# Altium schematic symbol library 0.9 - 传感器-存储器-模块.SchLib: 64 symbols
Pins are listed as number, name and electrical type; pins without a type are passive.

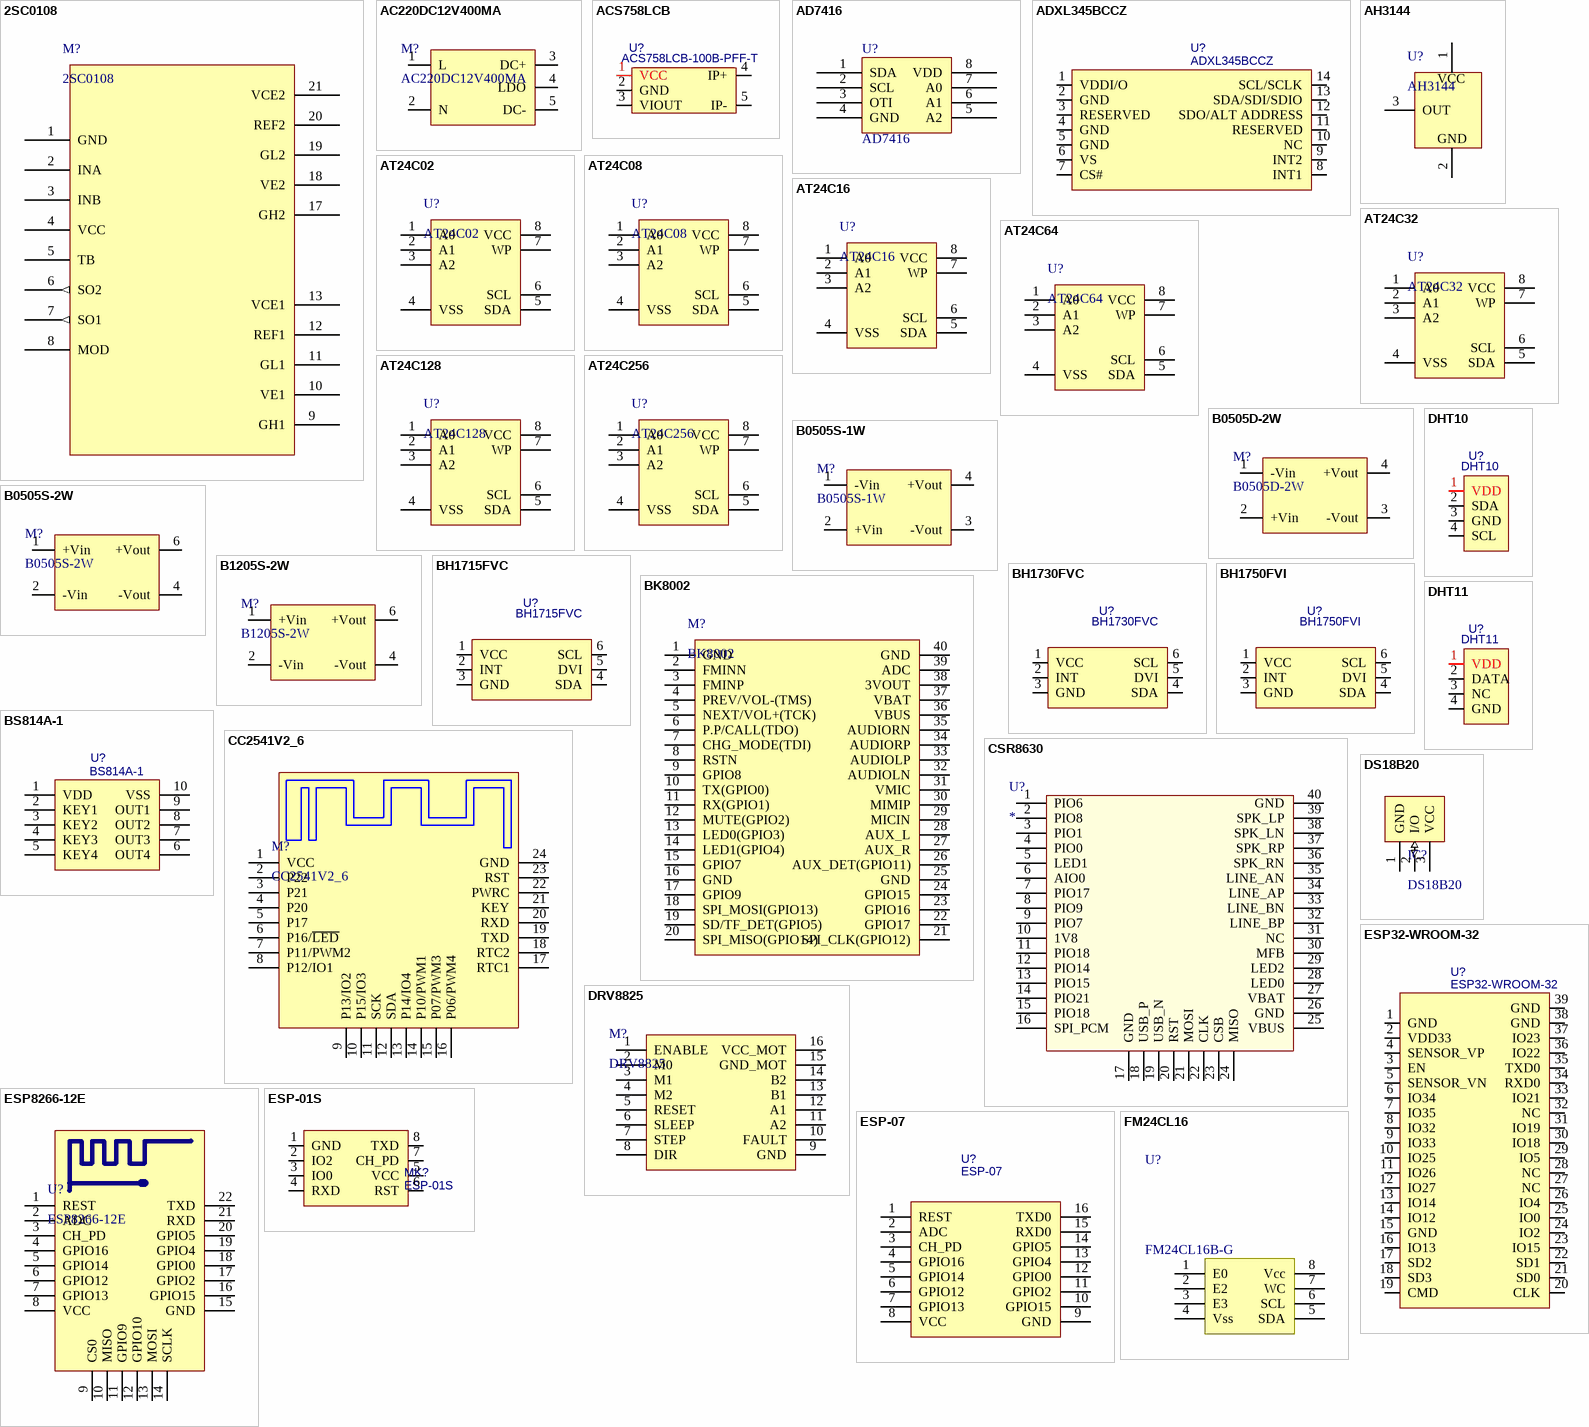
[diagram p0: symbols 2SC0108 to FM24CL16]

## 2SC0108
designator M?
IGBT驱动模块; 封装库来自淘宝卖家：黄晶宝石: 其他店铺购入均为盗版封装库，请立即申请退款，本店现金奖励100~500元; BOM名称: IGBT驱动模块
footprint 2SC0108 (45mm*34.29mm*16mm(长*宽*高))
pins: 1 GND, 2 INA, 3 INB, 4 VCC, 5 TB, 6 SO2 (out), 7 SO1 (out), 8 MOD, 9 GH1, 10 VE1, 11 GL1, 12 REF1, 13 VCE1, 17 GH2, 18 VE2, 19 GL2, 20 REF2, 21 VCE2

## AC220DC12V400MA
designator M?
AC-DC模块; 封装库来自淘宝卖家：黄晶宝石: 其他店铺购入均为盗版封装库，请立即申请退款，本店现金奖励100~500元; BOM名称: AC-DC模块
footprint ADDC302018 (长宽高30*20*18（mm）)
pins: 1 L, 2 N, 3 DC+, 4 LDO, 5 DC-

## ACS758LCB
designator U?, comment ACS758LCB-100B-PFF-T
霍尔电流传感器; 封装库来自淘宝卖家：黄晶宝石: 其他店铺购入均为盗版封装库，请立即申请退款，本店现金奖励100~500元; BOM名称: ACS758LCB
footprint ACS758
pins: 1 VCC, 2 GND, 3 VIOUT, 4 IP+, 5 IP-

## AD7416
designator U?
数字温度传感器; 封装库来自淘宝卖家：黄晶宝石: 其他店铺购入均为盗版封装库，请立即申请退款，本店现金奖励100~500元
footprint SOIC-8_150mil (封装库来自淘宝卖家 ID：黄晶宝石)
pins: 1 SDA, 2 SCL, 3 OTI, 4 GND, 5 A2, 6 A1, 7 A0, 8 VDD

## ADXL345BCCZ
designator U?
3轴 数字加速度计; BOM名称: ADXL345BCCZ-RL; 封装库来自淘宝卖家：黄晶宝石: 其他店铺购入均为盗版封装库，请立即申请退款，本店现金奖励100~500元
footprint LGA-14_L5.0-W3.0-P0.80 (Footprint not found)
pins: 1 VDDI/O, 2 GND, 3 RESERVED, 4 GND, 5 GND, 6 VS, 7 CS#, 8 INT1, 9 INT2, 10 NC, 11 RESERVED, 12 SDO/ALT ADDRESS, 13 SDA/SDI/SDIO, 14 SCL/SCLK

## AH3144
designator U?
单极霍尔开关; 封装库来自淘宝卖家：黄晶宝石: 其他店铺购入均为盗版封装库，请立即申请退款，本店现金奖励100~500元; BOM名称: 单极霍尔开关
footprint TO92UA_A (92晶体管)
pins: 1 VCC, 2 GND, 3 OUT

## AT24C02
designator U?
EEROM存储器; 封装库来自淘宝卖家：黄晶宝石: 其他店铺购入均为盗版封装库，请立即申请退款，本店现金奖励100~500元
footprint SOIC-8_150MIL (封装库来自淘宝卖家 ID：黄晶宝石)
pins: 1 A0, 2 A1, 3 A2, 4 VSS, 5 SDA, 6 SCL, 7 WP, 8 VCC

## AT24C08
designator U?
EEROM存储器; 封装库来自淘宝卖家：黄晶宝石: 其他店铺购入均为盗版封装库，请立即申请退款，本店现金奖励100~500元
footprint SOIC-8_150MIL (封装库来自淘宝卖家 ID：黄晶宝石)
pins: 1 A0, 2 A1, 3 A2, 4 VSS, 5 SDA, 6 SCL, 7 WP, 8 VCC

## AT24C16
designator U?
EEROM存储器; 封装库来自淘宝卖家：黄晶宝石: 其他店铺购入均为盗版封装库，请立即申请退款，本店现金奖励100~500元
footprint SOIC-8_150MIL (封装库来自淘宝卖家 ID：黄晶宝石)
pins: 1 A0, 2 A1, 3 A2, 4 VSS, 5 SDA, 6 SCL, 7 WP, 8 VCC

## AT24C32
designator U?
EEROM存储器; 封装库来自淘宝卖家：黄晶宝石: 其他店铺购入均为盗版封装库，请立即申请退款，本店现金奖励100~500元
footprint SOIC-8_150MIL (封装库来自淘宝卖家 ID：黄晶宝石)
pins: 1 A0, 2 A1, 3 A2, 4 VSS, 5 SDA, 6 SCL, 7 WP, 8 VCC

## AT24C64
designator U?
EEROM存储器; 封装库来自淘宝卖家：黄晶宝石: 其他店铺购入均为盗版封装库，请立即申请退款，本店现金奖励100~500元
footprint SOIC-8_150MIL (封装库来自淘宝卖家 ID：黄晶宝石)
pins: 1 A0, 2 A1, 3 A2, 4 VSS, 5 SDA, 6 SCL, 7 WP, 8 VCC

## AT24C128
designator U?
EEROM存储器; 封装库来自淘宝卖家：黄晶宝石: 其他店铺购入均为盗版封装库，请立即申请退款，本店现金奖励100~500元
footprint SOIC-8_150MIL (封装库来自淘宝卖家 ID：黄晶宝石)
pins: 1 A0, 2 A1, 3 A2, 4 VSS, 5 SDA, 6 SCL, 7 WP, 8 VCC

## AT24C256
designator U?
EEROM存储器; 封装库来自淘宝卖家：黄晶宝石: 其他店铺购入均为盗版封装库，请立即申请退款，本店现金奖励100~500元
footprint SOIC-8_150MIL (封装库来自淘宝卖家 ID：黄晶宝石)
pins: 1 A0, 2 A1, 3 A2, 4 VSS, 5 SDA, 6 SCL, 7 WP, 8 VCC

## B0505D-2W
designator M?
DC-DC模块; 封装库来自淘宝卖家：黄晶宝石: 其他店铺购入均为盗版封装库，请立即申请退款，本店现金奖励100~500元; BOM名称: DC-DC模块
footprint B0505D-2W (19.5mm*9.8mm*7.7mm(长*宽*高）)
pins: 1 -Vin, 2 +Vin, 3 -Vout, 4 +Vout

## B0505S-1W
designator M?
DC-DC模块; 封装库来自淘宝卖家：黄晶宝石: 其他店铺购入均为盗版封装库，请立即申请退款，本店现金奖励100~500元; BOM名称: DC-DC模块
footprint B0505S-1W (11.68mm*6mm*9.65mm(长*宽*高）)
pins: 1 -Vin, 2 +Vin, 3 -Vout, 4 +Vout

## B0505S-2W
designator M?
DC-DC模块; 封装库来自淘宝卖家：黄晶宝石: 其他店铺购入均为盗版封装库，请立即申请退款，本店现金奖励100~500元; BOM名称: DC-DC模块
footprint B0505S-2W (Footprint not found)
pins: 1 +Vin, 2 -Vin, 4 -Vout, 6 +Vout

## B1205S-2W
designator M?
DC-DC模块; 封装库来自淘宝卖家：黄晶宝石: 其他店铺购入均为盗版封装库，请立即申请退款，本店现金奖励100~500元; BOM名称: DC-DC模块
footprint B0505S-2W (Footprint not found)
pins: 1 +Vin, 2 -Vin, 4 -Vout, 6 +Vout

## BH1715FVC
designator U?
光线传感器; 封装库来自淘宝卖家：黄晶宝石: 其他店铺购入均为盗版封装库，请立即申请退款，本店现金奖励100~500元; BOM名称: BH1715FVC
footprint WSOF-6_P0.50 (Footprint not found)
pins: 1 VCC, 2 INT, 3 GND, 4 SDA, 5 DVI, 6 SCL

## BH1730FVC
designator U?
光线传感器; 封装库来自淘宝卖家：黄晶宝石: 其他店铺购入均为盗版封装库，请立即申请退款，本店现金奖励100~500元; BOM名称: BH1730FVC
footprint WSOF-6_P0.50 (Footprint not found)
pins: 1 VCC, 2 INT, 3 GND, 4 SDA, 5 DVI, 6 SCL

## BH1750FVI
designator U?
光线传感器; 封装库来自淘宝卖家：黄晶宝石: 其他店铺购入均为盗版封装库，请立即申请退款，本店现金奖励100~500元; BOM名称: BH1750FVI
footprint WSOF-6_P0.50 (Footprint not found)
pins: 1 VCC, 2 INT, 3 GND, 4 SDA, 5 DVI, 6 SCL

## BK8002
designator M?
蓝牙模块，带FM; BOM名称: 蓝牙立体声模块; 封装库来自淘宝卖家：黄晶宝石: 其他店铺购入均为盗版封装库，请立即申请退款，本店现金奖励100~500元
footprint BK8002
pins: 1 GND, 2 FMINN, 3 FMINP, 4 PREV/VOL-(TMS), 5 NEXT/VOL+(TCK), 6 P.P/CALL(TDO), 7 CHG_MODE(TDI), 8 RSTN, 9 GPIO8, 10 TX(GPIO0), 11 RX(GPIO1), 12 MUTE(GPIO2), 13 LED0(GPIO3), 14 LED1(GPIO4), 15 GPIO7, 16 GND, 17 GPIO9, 18 SPI_MOSI(GPIO13), 19 SD/TF_DET(GPIO5), 20 SPI_MISO(GPIO14), 21 SPI_CLK(GPIO12), 22 GPIO17, 23 GPIO16, 24 GPIO15, 25 GND, 26 AUX_DET(GPIO11), 27 AUX_R, 28 AUX_L, 29 MICIN, 30 MIMIP, 31 VMIC, 32 AUDIOLN, 33 AUDIOLP, 34 AUDIORP, 35 AUDIORN, 36 VBUS, 37 VBAT, 38 3VOUT, 39 ADC, 40 GND

## BS814A-1
designator U?
4按键电容触摸检测芯片; 封装库来自淘宝卖家：黄晶宝石: 其他店铺购入均为盗版封装库，请立即申请退款，本店现金奖励100~500元; BOM名称: BS814A-1
footprint MSOP-10 (长3mm，宽3mm，脚距0.5 封装库来自淘宝ID:黄晶宝石)
pins: 1 VDD, 2 KEY1, 3 KEY2, 4 KEY3, 5 KEY4, 6 OUT4, 7 OUT3, 8 OUT2, 9 OUT1, 10 VSS

## CC2541V2_6
designator M?
蓝牙4.0透传模块; 封装库来自淘宝卖家：黄晶宝石: 其他店铺购入均为盗版封装库，请立即申请退款，本店现金奖励100~500元; BOM名称: 蓝牙4.0透传模块
footprint CC2541V2_6 (蓝牙4.0透传模块)
pins: 1 VCC, 2 P22, 3 P21, 4 P20, 5 P17, 6 P16/~{LED}, 7 P11/PWM2, 8 P12/IO1, 9 P13/IO2, 10 P15/IO3, 11 SCK, 12 SDA, 13 P14/IO4, 14 P10/PWM1, 15 P07/PWM3, 16 P06/PWM4, 17 RTC1, 18 RTC2, 19 TXD, 20 RXD, 21 KEY, 22 PWRC, 23 RST, 24 GND

## CSR8630
designator U?
蓝牙音乐接收模块; 封装库来自淘宝卖家：黄晶宝石: 其他店铺购入均为盗版封装库，请立即申请退款，本店现金奖励100~500元; BOM名称: CSR8630
footprint CSR_8630
pins: 1 PIO6, 2 PIO8, 3 PIO1, 4 PIO0, 5 LED1, 6 AIO0, 7 PIO17, 8 PIO9, 9 PIO7, 10 1V8, 11 PIO18, 12 PIO14, 13 PIO15, 14 PIO21, 15 PIO18, 16 SPI_PCM, 17 GND, 18 USB_P, 19 USB_N, 20 RST, 21 MOSI, 22 CLK, 23 CSB, 24 MISO, 25 VBUS, 26 GND, 27 VBAT, 28 LED0, 29 LED2, 30 MFB, 31 NC, 32 LINE_BP, 33 LINE_BN, 34 LINE_AP, 35 LINE_AN, 36 SPK_RN, 37 SPK_RP, 38 SPK_LN, 39 SPK_LP, 40 GND

## DHT10
designator U?
温湿度传感器; 封装库来自淘宝卖家：黄晶宝石: 其他店铺购入均为盗版封装库，请立即申请退款，本店现金奖励100~500元; BOM名称: DHT10
footprint HDR2.54-M-LI-4P (排母，4脚  淘宝ID:黄晶宝石   店铺网址:https://shop463601444.taobao.com)
pins: 1 VDD, 2 SDA, 3 GND, 4 SCL

## DHT11
designator U?
电容式温湿度传感器; 封装库来自淘宝卖家：黄晶宝石: 其他店铺购入均为盗版封装库，请立即申请退款，本店现金奖励100~500元; BOM名称: DHT11
footprint HT11A
pins: 1 VDD, 2 DATA, 3 NC, 4 GND

## DRV8825
designator M?
步进电机驱动模块; 封装库来自淘宝卖家：黄晶宝石: 其他店铺购入均为盗版封装库，请立即申请退款，本店现金奖励100~500元; BOM名称: 步进电机驱动模块
footprint DRV8825 (长:20.5mm，宽:15.5mm，高:5mm)
pins: 1 ENABLE, 2 M0, 3 M1, 4 M2, 5 RESET, 6 SLEEP, 7 STEP, 8 DIR, 9 GND, 10 FAULT, 11 A2, 12 A1, 13 B1, 14 B2, 15 GND_MOT, 16 VCC_MOT

## DS18B20
designator IC?
数字温度计; 封装库来自淘宝卖家：黄晶宝石: 其他店铺购入均为盗版封装库，请立即申请退款，本店现金奖励100~500元; BOM名称: 数字温度计
footprint TO92A (92晶体管)
footprint TO92B (92晶体管)
pins: 1 GND (power), 2 I/O (io), 3 VCC (power)

## ESP32-WROOM-32
designator U?
WIFI模块; 封装库来自淘宝卖家：黄晶宝石: 其他店铺购入均为盗版封装库，请立即申请退款，本店现金奖励100~500元; BOM名称: ESP32-WROOM-32
footprint ESP32-WROOM-32 (SMD, 38-Leads, Body 18x25.5mm, Pitch 1.27mm)
pins: 1 GND, 2 VDD33, 3 EN, 4 SENSOR_VP, 5 SENSOR_VN, 6 IO34, 7 IO35, 8 IO32, 9 IO33, 10 IO25, 11 IO26, 12 IO27, 13 IO14, 14 IO12, 15 GND, 16 IO13, 17 SD2, 18 SD3, 19 CMD, 20 CLK, 21 SD0, 22 SD1, 23 IO15, 24 IO2, 25 IO0, 26 IO4, 27 NC, 28 NC, 29 IO5, 30 IO18, 31 IO19, 32 NC, 33 IO21, 34 RXD0, 35 TXD0, 36 IO22, 37 IO23, 38 GND, 39 GND

## ESP8266-12E
designator U?
串口 WIFI模块，ESP-12E; BOM名称: WIFI模块; 封装库来自淘宝卖家：黄晶宝石: 其他店铺购入均为盗版封装库，请立即申请退款，本店现金奖励100~500元
footprint ESP_12E (ESP-12 Wi-Fi Module by AI-Thinker)
pins: 1 REST, 2 ADC, 3 CH_PD, 4 GPIO16, 5 GPIO14, 6 GPIO12, 7 GPIO13, 8 VCC, 9 CS0, 10 MISO, 11 GPIO9, 12 GPIO10, 13 MOSI, 14 SCLK, 15 GND, 16 GPIO15, 17 GPIO2, 18 GPIO0, 19 GPIO4, 20 GPIO5, 21 RXD, 22 TXD

## ESP-01S
designator MK?
WIFI模块; 封装库来自淘宝卖家：黄晶宝石: 其他店铺购入均为盗版封装库，请立即申请退款，本店现金奖励100~500元; BOM名称: ESP-01S
footprint ESP-01S
pins: 1 GND, 2 IO2, 3 IO0, 4 RXD, 5 VCC, 6 RST, 7 CH_PD, 8 TXD

## ESP-07
designator U?
WIFI模块; 封装库来自淘宝卖家：黄晶宝石: 其他店铺购入均为盗版封装库，请立即申请退款，本店现金奖励100~500元; BOM名称: ESP-07
footprint ESP-07
pins: 1 REST, 2 ADC, 3 CH_PD, 4 GPIO16, 5 GPIO14, 6 GPIO12, 7 GPIO13, 8 VCC, 9 GND, 10 GPIO15, 11 GPIO2, 12 GPIO0, 13 GPIO4, 14 GPIO5, 15 RXD0, 16 TXD0

## FM24CL16
designator U?, comment FM24CL16B-G
铁电存储器; 封装库来自淘宝卖家：黄晶宝石: 其他店铺购入均为盗版封装库，请立即申请退款，本店现金奖励100~500元
footprint SOIC-8_150MIL (封装库来自淘宝卖家 ID：黄晶宝石)
pins: 1 E0, 2 E2, 3 E3, 4 Vss, 5 SDA, 6 SCL, 7 WC, 8 Vcc

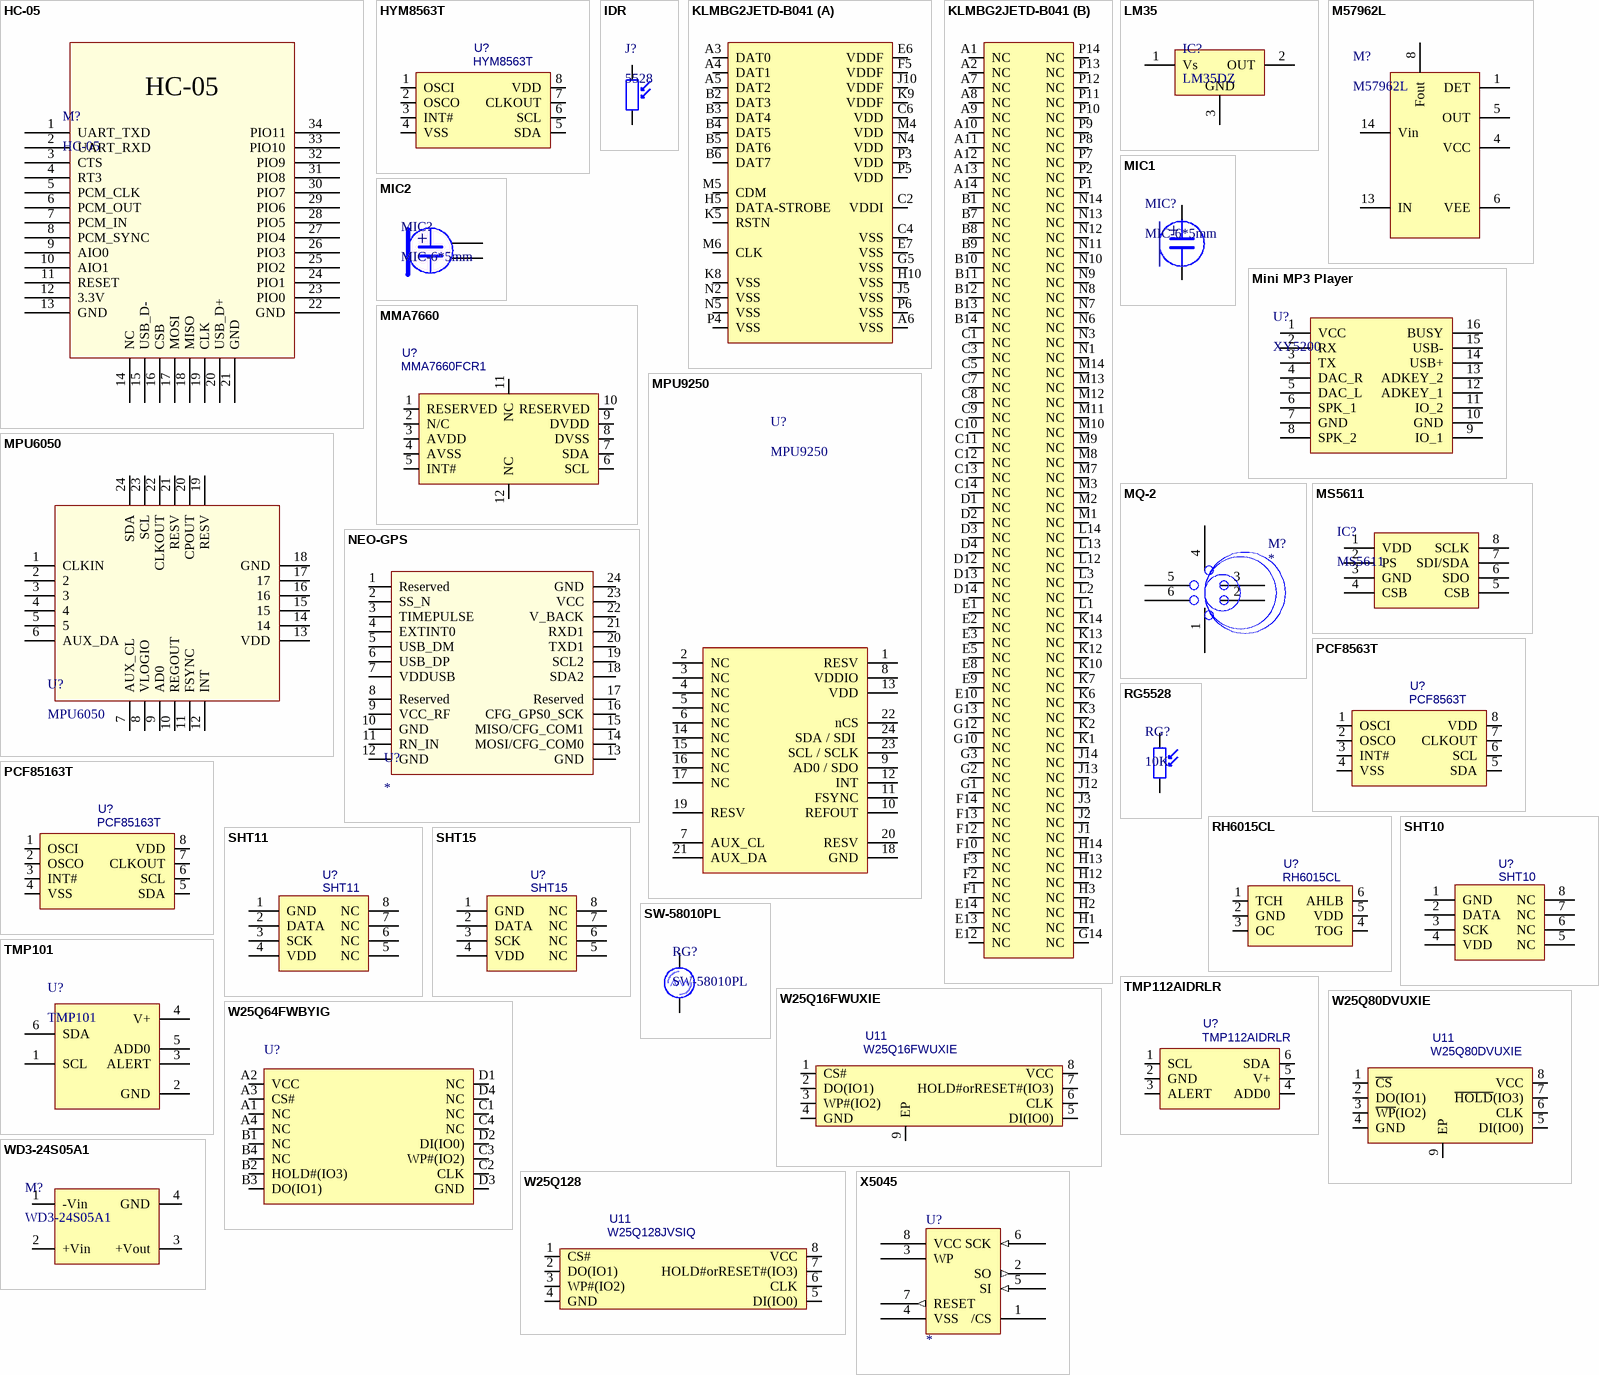
[diagram p1: symbols HC-05 to X5045]

## HC-05
designator M?
串口蓝牙模块; 封装库来自淘宝卖家：黄晶宝石: 其他店铺购入均为盗版封装库，请立即申请退款，本店现金奖励100~500元; BOM名称: 串口蓝牙模块
footprint HC-05 (串口蓝牙模块)
pins: 1 UART_TXD, 2 UART_RXD, 3 CTS, 4 RT3, 5 PCM_CLK, 6 PCM_OUT, 7 PCM_IN, 8 PCM_SYNC, 9 AIO0, 10 AIO1, 11 RESET, 12 3.3V, 13 GND, 14 NC, 15 USB_D-, 16 CSB, 17 MOSI, 18 MISO, 19 CLK, 20 USB_D+, 21 GND, 22 GND, 23 PIO0, 24 PIO1, 25 PIO2, 26 PIO3, 27 PIO4, 28 PIO5, 29 PIO6, 30 PIO7, 31 PIO8, 32 PIO9, 33 PIO10, 34 PIO11

## HYM8563T
designator U?
RTC实时时钟; BOM名称: PCF8563T/5,518; 封装库来自淘宝卖家：黄晶宝石: 其他店铺购入均为盗版封装库，请立即申请退款，本店现金奖励100~500元
footprint SOIC-8
pins: 1 OSCI, 2 OSCO, 3 INT#, 4 VSS, 5 SDA, 6 SCL, 7 CLKOUT, 8 VDD

## IDR
designator J?, comment 5528
光敏电阻; 封装库来自淘宝卖家：黄晶宝石: 其他店铺购入均为盗版封装库，请立即申请退款，本店现金奖励100~500元; BOM名称: 光敏电阻
footprint RG5528 (光敏电阻 脚距：3mm)
pins: 1, 2

## KLMBG2JETD-B041
designator U??  (value not drawn)
32GB EMMC5.1; BOM名称: KLMBG2JETD-B041A; 封装库来自淘宝卖家：黄晶宝石: 其他店铺购入均为盗版封装库，请立即申请退款，本店现金奖励100~500元
footprint FBGA-153_L13.0-W11.5-P0.50
part A pins: A3 DAT0, A4 DAT1, A5 DAT2, A6 VSS, B2 DAT3, B3 DAT4, B4 DAT5, B5 DAT6, B6 DAT7, C2 VDDI, C4 VSS, C6 VDD, E6 VDDF, E7 VSS, F5 VDDF, G5 VSS, H5 DATA-STROBE, H10 VSS, J5 VSS, J10 VDDF, K5 RSTN, K8 VSS, K9 VDDF, M4 VDD, M5 CDM, M6 CLK, N2 VSS, N4 VDD, N5 VSS, P3 VDD, P4 VSS, P5 VDD, P6 VSS
part B pins: A1 NC, A2 NC, A7 NC, A8 NC, A9 NC, A10 NC, A11 NC, A12 NC, A13 NC, A14 NC, B1 NC, B7 NC, B8 NC, B9 NC, B10 NC, B11 NC, B12 NC, B13 NC, B14 NC, C1 NC, C3 NC, C5 NC, C7 NC, C8 NC, C9 NC, C10 NC, C11 NC, C12 NC, C13 NC, C14 NC, D1 NC, D2 NC, D3 NC, D4 NC, D12 NC, D13 NC, D14 NC, E1 NC, E2 NC, E3 NC, E5 NC, E8 NC, E9 NC, E10 NC, E12 NC, E13 NC, E14 NC, F1 NC, F2 NC, F3 NC, F10 NC, F12 NC, F13 NC, F14 NC, G1 NC, G2 NC, G3 NC, G10 NC, G12 NC, G13 NC, G14 NC, H1 NC, H2 NC, H3 NC, H12 NC, H13 NC, H14 NC, J1 NC, J2 NC, J3 NC, J12 NC, J13 NC, J14 NC, K1 NC, K2 NC, K3 NC, K6 NC, K7 NC, K10 NC, K12 NC, K13 NC, K14 NC, L1 NC, L2 NC, L3 NC, L12 NC, L13 NC, L14 NC, M1 NC, M2 NC, M3 NC, M7 NC, M8 NC, M9 NC, M10 NC, M11 NC, M12 NC, M13 NC, M14 NC, N1 NC, N3 NC, N6 NC, N7 NC, N8 NC, N9 NC, N10 NC, N11 NC, N12 NC, N13 NC, N14 NC, P1 NC, P2 NC, P7 NC, P8 NC, P9 NC, P10 NC, P11 NC, P12 NC, P13 NC, P14 NC

## LM35
designator IC?, comment LM35DZ
精密温度传感器; 封装库来自淘宝卖家：黄晶宝石: 其他店铺购入均为盗版封装库，请立即申请退款，本店现金奖励100~500元; BOM名称: 精密温度传感器
footprint TO92A (92晶体管)
footprint TO92B (92晶体管)
pins: 1 Vs, 2 OUT, 3 GND

## M57962L
designator M?
IGBT驱动; 封装库来自淘宝卖家：黄晶宝石: 其他店铺购入均为盗版封装库，请立即申请退款，本店现金奖励100~500元; BOM名称: IGBT驱动
footprint M57962L (IGBT驱动模块)
pins: 1 DET, 4 VCC, 5 OUT, 6 VEE, 8 Fout, 13 IN, 14 Vin

## MIC1
designator MIC?, comment MIC-6*5mm
电容麦克风; 封装库来自淘宝卖家：黄晶宝石: 其他店铺购入均为盗版封装库，请立即申请退款，本店现金奖励100~500元; BOM名称: 电容麦克风
footprint MIC-6*5.5mm (咪咪头)
footprint MIC-4.5*1.9 (咪咪头)
pins: 1, 2
text: +

## MIC2
designator MIC?, comment MIC-6*5mm
电容麦克风; 封装库来自淘宝卖家：黄晶宝石: 其他店铺购入均为盗版封装库，请立即申请退款，本店现金奖励100~500元; BOM名称: 电容麦克风
footprint MIC-4.5*1.9 (咪咪头)
footprint MIC-6*5.5mm (咪咪头)
pins: 1, 2
text: +

## Mini MP3 Player
designator U?, comment XY5200
MP3模块; 封装库来自淘宝卖家：黄晶宝石: 其他店铺购入均为盗版封装库，请立即申请退款，本店现金奖励100~500元; BOM名称: MP3模块
footprint DFPlayer Mini (长：21mm ， 宽： 21mm，高：6mm)
pins: 1 VCC, 2 RX, 3 TX, 4 DAC_R, 5 DAC_L, 6 SPK_1, 7 GND, 8 SPK_2, 9 IO_1, 10 GND, 11 IO_2, 12 ADKEY_1, 13 ADKEY_2, 14 USB+, 15 USB-, 16 BUSY

## MMA7660
designator U?, comment MMA7660FCR1
重力感应传感器; 封装库来自淘宝卖家：黄晶宝石: 其他店铺购入均为盗版封装库，请立即申请退款，本店现金奖励100~500元; BOM名称: MMA7660
footprint DFN-10_L3.0-W3.0-P0.50 (Footprint not found)
pins: 1 RESERVED, 2 N/C, 3 AVDD, 4 AVSS, 5 INT#, 6 SCL, 7 SDA, 8 DVSS, 9 DVDD, 10 RESERVED, 11 NC, 12 NC

## MPU6050
designator U?
三轴加速度+三轴陀螺仪; 封装库来自淘宝卖家：黄晶宝石: 其他店铺购入均为盗版封装库，请立即申请退款，本店现金奖励100~500元; BOM名称: MPU6050
footprint QFN_24
pins: 1 CLKIN, 2, 3, 4, 5, 6 AUX_DA, 7 AUX_CL, 8 VLOGIO, 9 AD0, 10 REGOUT, 11 FSYNC, 12 INT, 13 VDD, 14, 15, 16, 17, 18 GND, 19 RESV, 20 CPOUT, 21 RESV, 22 CLKOUT, 23 SCL, 24 SDA

## MPU9250
designator U?
三轴加速度+三轴陀螺仪+三轴地磁计; 封装库来自淘宝卖家：黄晶宝石: 其他店铺购入均为盗版封装库，请立即申请退款，本店现金奖励100~500元; BOM名称: 三轴加速度+三轴陀螺仪+三轴地磁计
footprint QFN24 4x4_N (24脚，长x宽x高：4x4x1mm，脚距：0.5mm)
footprint QFN24 4x4_M (24脚，长x宽x高：4x4x1mm，脚距：0.5mm)
pins: 1 RESV, 2 NC, 3 NC, 4 NC, 5 NC, 6 NC, 7 AUX_CL, 8 VDDIO, 9 AD0 / SDO, 10 REFOUT, 11 FSYNC, 12 INT, 13 VDD, 14 NC, 15 NC, 16 NC, 17 NC, 18 GND, 19 RESV, 20 RESV, 21 AUX_DA, 22 nCS, 23 SCL / SCLK, 24 SDA / SDI 

## MQ-2
designator M?
气体传感器; 封装库来自淘宝卖家：黄晶宝石: 其他店铺购入均为盗版封装库，请立即申请退款，本店现金奖励100~500元
footprint MQ-2 (Footprint not found)
pins: 1 H1, 2, 3 A1, 4 H2, 5 A2, 6 B2
1 alternate drawing of the same symbol

## MS5611
designator IC?
气压传感器; 封装库来自淘宝卖家：黄晶宝石: 其他店铺购入均为盗版封装库，请立即申请退款，本店现金奖励100~500元; BOM名称: 气压传感器
footprint MS5611 (气压传感芯片)
pins: 1 VDD, 2 PS, 3 GND, 4 CSB, 5 CSB, 6 SDO, 7 SDI/SDA, 8 SCLK

## NEO-GPS
designator U?
封装库来自淘宝卖家：黄晶宝石: 其他店铺购入均为盗版封装库，请立即申请退款，本店现金奖励100~500元
footprint NEO-6M-0-001 (Footprint not found)
pins: 1 Reserved, 2 SS_N, 3 TIMEPULSE, 4 EXTINT0, 5 USB_DM, 6 USB_DP, 7 VDDUSB, 8 Reserved, 9 VCC_RF, 10 GND, 11 RN_IN, 12 GND, 13 GND, 14 MOSI/CFG_COM0, 15 MISO/CFG_COM1, 16 CFG_GPS0_SCK, 17 Reserved, 18 SDA2, 19 SCL2, 20 TXD1, 21 RXD1, 22 V_BACK, 23 VCC, 24 GND

## PCF8563T
designator U?
RTC实时时钟; BOM名称: PCF8563T/5,518; 封装库来自淘宝卖家：黄晶宝石: 其他店铺购入均为盗版封装库，请立即申请退款，本店现金奖励100~500元
footprint SOIC-8
pins: 1 OSCI, 2 OSCO, 3 INT#, 4 VSS, 5 SDA, 6 SCL, 7 CLKOUT, 8 VDD

## PCF85163T
designator U?
RTC实时时钟; BOM名称: PCF8563T/5,518; 封装库来自淘宝卖家：黄晶宝石: 其他店铺购入均为盗版封装库，请立即申请退款，本店现金奖励100~500元
footprint SOIC-8
pins: 1 OSCI, 2 OSCO, 3 INT#, 4 VSS, 5 SDA, 6 SCL, 7 CLKOUT, 8 VDD

## RG5528
designator RG?, comment 10K
光敏电阻; 封装库来自淘宝卖家：黄晶宝石: 其他店铺购入均为盗版封装库，请立即申请退款，本店现金奖励100~500元; BOM名称: 光敏电阻
footprint RG5528 (光敏电阻 脚距：3mm)
pins: 1, 2

## RH6015CL
designator U?
单通道触摸感应开关; 封装库来自淘宝卖家：黄晶宝石: 其他店铺购入均为盗版封装库，请立即申请退款，本店现金奖励100~500元; BOM名称: RH6015CL
footprint TDFN-6_L2.0-W2.0-P0.65-BL
pins: 1 TCH, 2 GND, 3 OC, 4 TOG, 5 VDD, 6 AHLB

## SHT10
designator U?
温湿度传感器; 封装库来自淘宝卖家：黄晶宝石: 其他店铺购入均为盗版封装库，请立即申请退款，本店现金奖励100~500元; BOM名称: SHT10
footprint LGA-10P-L4.9-W7.5-P1.27 (Footprint not found)
pins: 1 GND, 2 DATA, 3 SCK, 4 VDD, 5 NC, 6 NC, 7 NC, 8 NC

## SHT11
designator U?
温湿度传感器; BOM名称: SHT10; 封装库来自淘宝卖家：黄晶宝石: 其他店铺购入均为盗版封装库，请立即申请退款，本店现金奖励100~500元
footprint LGA-10P-L4.9-W7.5-P1.27 (Footprint not found)
pins: 1 GND, 2 DATA, 3 SCK, 4 VDD, 5 NC, 6 NC, 7 NC, 8 NC

## SHT15
designator U?
温湿度传感器; BOM名称: SHT10; 封装库来自淘宝卖家：黄晶宝石: 其他店铺购入均为盗版封装库，请立即申请退款，本店现金奖励100~500元
footprint LGA-10P-L4.9-W7.5-P1.27 (Footprint not found)
pins: 1 GND, 2 DATA, 3 SCK, 4 VDD, 5 NC, 6 NC, 7 NC, 8 NC

## SW-58010PL
designator RG?
震动传感器; 封装库来自淘宝卖家：黄晶宝石: 其他店铺购入均为盗版封装库，请立即申请退款，本店现金奖励100~500元; BOM名称: 震动传感器
footprint SW-58010PL-WI (3.2mm*8.5mm(直径*长度）)
footprint SW-58010PL-LI (3.2mm*8.5mm(直径*长度）)
pins: 1, 2

## TMP101
designator U?
数字温度传感器; 封装库来自淘宝卖家：黄晶宝石: 其他店铺购入均为盗版封装库，请立即申请退款，本店现金奖励100~500元; BOM名称: 数字温度传感器
footprint SOT-23-6 (SOT-23, 6-Leads, Body 2.90x1.60mm, Pitch 0.95mm, IPC High Density)
pins: 1 SCL, 2 GND, 3 ALERT, 4 V+, 5 ADD0, 6 SDA

## TMP112AIDRLR
designator U?
数字温度传感器; 封装库来自淘宝卖家：黄晶宝石: 其他店铺购入均为盗版封装库，请立即申请退款，本店现金奖励100~500元; BOM名称: TMP112AIDRLR
footprint SOT563-6 (联系卖家 免费查找封装)
pins: 1 SCL, 2 GND, 3 ALERT, 4 ADD0, 5 V+, 6 SDA

## W25Q16FWUXIE
designator U11
16M-bit 1.8V串行闪存芯片; 封装库来自淘宝卖家：黄晶宝石: 其他店铺购入均为盗版封装库，请立即申请退款，本店现金奖励100~500元; BOM名称: W25Q16FWUXIE
footprint USON8_L3.0-W2.0-P0.50-EP
pins: 1 CS#, 2 DO(IO1), 3 WP#(IO2), 4 GND, 5 DI(IO0), 6 CLK, 7 HOLD#orRESET#(IO3), 8 VCC, 9 EP

## W25Q64FWBYIG
designator U?  (value not drawn)
64M-bit 1.8V串行闪存芯片; 封装库来自淘宝卖家：黄晶宝石: 其他店铺购入均为盗版封装库，请立即申请退款，本店现金奖励100~500元; BOM名称: W25Q64FWBYIG
footprint WLCSP-16_L3.1-W2.5-P0.80-BL
pins: A1 NC, A2 VCC, A3 CS#, A4 NC, B1 NC, B2 HOLD#(IO3), B3 DO(IO1), B4 NC, C1 NC, C2 CLK, C3 WP#(IO2), C4 NC, D1 NC, D2 DI(IO0), D3 GND, D4 NC

## W25Q80DVUXIE
designator U11
8M-bit 3.3V串行闪存芯片; 封装库来自淘宝卖家：黄晶宝石: 其他店铺购入均为盗版封装库，请立即申请退款，本店现金奖励100~500元; BOM名称: W25Q80DVUXIE
footprint USON8_L3.0-W2.0-P0.50-EP
pins: 1 ~{CS}, 2 DO(IO1), 3 ~{WP}(IO2), 4 GND, 5 DI(IO0), 6 CLK, 7 ~{HOLD}(IO3), 8 VCC, 9 EP

## W25Q128
designator U11, comment W25Q128JVSIQ
SPI FLASH; 封装库来自淘宝卖家：黄晶宝石: 其他店铺购入均为盗版封装库，请立即申请退款，本店现金奖励100~500元
footprint SOIC-8W
pins: 1 CS#, 2 DO(IO1), 3 WP#(IO2), 4 GND, 5 DI(IO0), 6 CLK, 7 HOLD#orRESET#(IO3), 8 VCC

## WD3-24S05A1
designator M?
24V转5V模块; 封装库来自淘宝卖家：黄晶宝石: 其他店铺购入均为盗版封装库，请立即申请退款，本店现金奖励100~500元; BOM名称: 24V转5V模块
footprint WD-24S05A1 (3W-24V转5V模块     淘宝ID:黄晶宝石)
pins: 1 -Vin, 2 +Vin, 3 +Vout, 4 GND

## X5045
designator U?
EEPROM+Watchdog; 封装库来自淘宝卖家：黄晶宝石: 其他店铺购入均为盗版封装库，请立即申请退款，本店现金奖励100~500元
footprint DIP-8 (9.4*7.6*3.8(长宽高）)
pins: 1 /CS, 2 SO (out), 3 WP, 4 VSS (power), 5 SI (in), 6 SCK (in), 7 RESET (out), 8 VCC (power)